# EAGLE library part AD8224 (library 0SBLib)
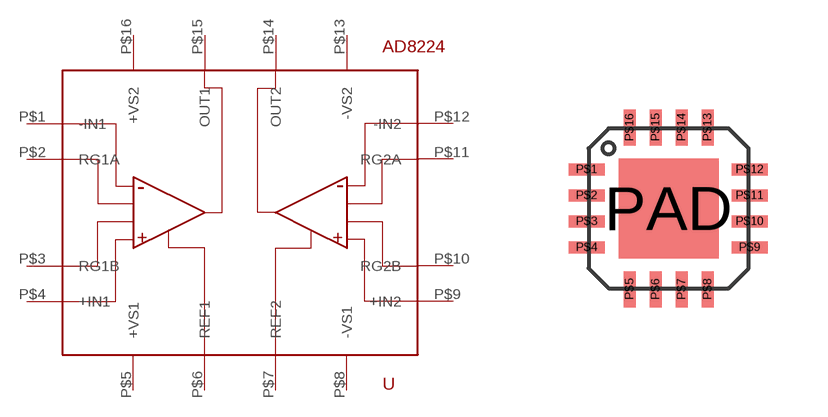
[diagram p16: symbol with the pads of LFCSP_16; footprint LFCSP_16]

Designator prefix -

## AD8224  [LFCSP_16]
P$1  -IN1
P$2  RG1A
P$3  RG1B
P$4  +IN1
P$5  +VS1
P$6  REF1
P$7  REF2
P$8  -VS1
P$9  +IN2
P$10  RG2B
P$11  RG2A
P$12  -IN2
P$13  -VS2
P$14  OUT2
P$15  OUT1
P$16  +VS2

## Footprint LFCSP_16 (pad centres in mm)
smd 0.9 x 0.3: P$1 -2.05,0.975; P$2 -2.05,0.325; P$3 -2.05,-0.325; P$4 -2.05,-0.975; P$9 2.025,-0.975; P$10 2.025,-0.325; P$11 2.025,0.325; P$12 2.025,0.975
smd 0.3 x 0.9: P$5 -0.975,-2.025; P$6 -0.325,-2.025; P$7 0.325,-2.025; P$8 0.975,-2.025; P$13 0.975,2.025; P$14 0.325,2.025; P$15 -0.325,2.025; P$16 -0.975,2.025
smd 2.5 x 2.5: PAD 0,0